# Altium footprint library common.PCBLIB: 88 footprints (part 5 of 6)
Each footprint in its own frame and in the unit in brackets; x right, y up, seen from the top. Pads: shape width x height; smd on the part's side, far side on the other; paste and mask are expansions set on the pad; w line width, h text height; cw(c..) or ccw(c..) is an arc to the next point about the centre after c.
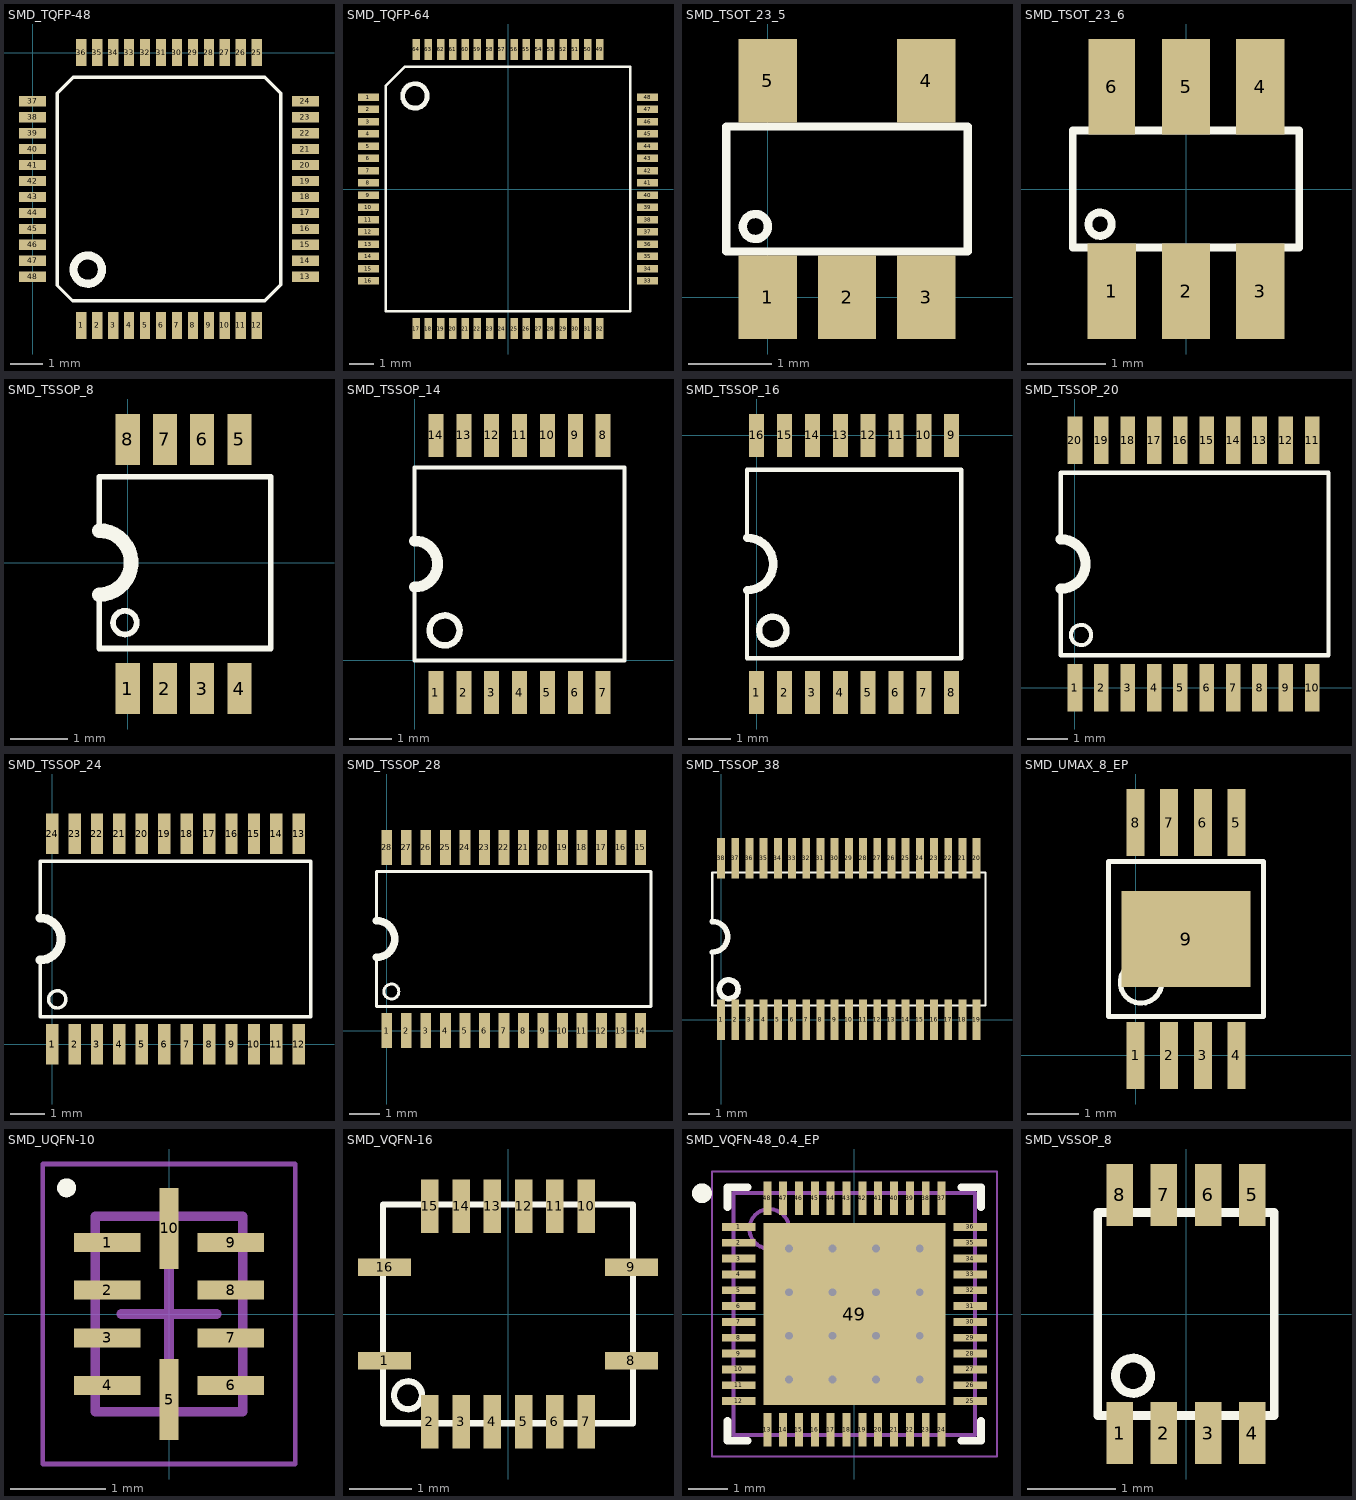
[diagram p4: the footprints below, top view; thin cyan lines are the x and y axes]

## SMD_TQFP-48 [mm] "SMD_TQFP-48"
height 1.6
pads (48):
  rect 0.32x0.85 smd: 1(1.525,-8.55) 2(2.025,-8.55) 3(2.525,-8.55) 4(3.025,-8.55) 5(3.525,-8.55) 6(4.025,-8.55) 7(4.525,-8.55) 8(5.025,-8.55) 9(5.525,-8.55) 10(6.025,-8.55) 11(6.525,-8.55) 12(7.025,-8.55) 25(7.025,0) 26(6.525,0) 27(6.025,0) 28(5.525,0) 29(5.025,0) 30(4.525,0) 31(4.025,0) 32(3.525,0) 33(3.025,0) 34(2.525,0) 35(2.025,0) 36(1.525,0)
  rect 0.85x0.32 smd: 13(8.55,-7.025) 14(8.55,-6.525) 15(8.55,-6.025) 16(8.55,-5.525) 17(8.55,-5.025) 18(8.55,-4.525) 19(8.55,-4.025) 20(8.55,-3.525) 21(8.55,-3.025) 22(8.55,-2.525) 23(8.55,-2.025) 24(8.55,-1.525) 37(0,-1.525) 38(0,-2.025) 39(0,-2.525) 40(0,-3.025) 41(0,-3.525) 42(0,-4.025) 43(0,-4.525) 44(0,-5.025) 45(0,-5.525) 46(0,-6.025) 47(0,-6.525) 48(0,-7.025)
Top Overlay:
  circle w0.254: c1.73,-6.8 r0.445
  lines w0.1: 0.775,-7.3 0.775,-1.275 1.275,-0.775 7.275,-0.775 7.775,-1.275 7.775,-7.275 7.275,-7.775 1.25,-7.775 0.775,-7.3

## SMD_TQFP-64 [mm]
pads (64):
  rect 0.85x0.3 smd: 1(-5.7,3.75) 2(-5.7,3.25) 3(-5.7,2.75) 4(-5.7,2.25) 5(-5.7,1.75) 6(-5.7,1.25) 7(-5.7,0.75) 8(-5.7,0.25) 9(-5.7,-0.25) 10(-5.7,-0.75) 11(-5.7,-1.25) 12(-5.7,-1.75) 13(-5.7,-2.25) 14(-5.7,-2.75) 15(-5.7,-3.25) 16(-5.7,-3.75) 33(5.7,-3.75) 34(5.7,-3.25) 35(5.7,-2.75) 36(5.7,-2.25) 37(5.7,-1.75) 38(5.7,-1.25) 39(5.7,-0.75) 40(5.7,-0.25) 41(5.7,0.25) 42(5.7,0.75) 43(5.7,1.25) 44(5.7,1.75) 45(5.7,2.25) 46(5.7,2.75) 47(5.7,3.25) 48(5.7,3.75)
  rect 0.3x0.85 smd: 17(-3.75,-5.7) 18(-3.25,-5.7) 19(-2.75,-5.7) 20(-2.25,-5.7) 21(-1.75,-5.7) 22(-1.25,-5.7) 23(-0.75,-5.7) 24(-0.25,-5.7) 25(0.25,-5.7) 26(0.75,-5.7) 27(1.25,-5.7) 28(1.75,-5.7) 29(2.25,-5.7) 30(2.75,-5.7) 31(3.25,-5.7) 32(3.75,-5.7) 49(3.75,5.7) 50(3.25,5.7) 51(2.75,5.7) 52(2.25,5.7) 53(1.75,5.7) 54(1.25,5.7) 55(0.75,5.7) 56(0.25,5.7) 57(-0.25,5.7) 58(-0.75,5.7) 59(-1.25,5.7) 60(-1.75,5.7) 61(-2.25,5.7) 62(-2.75,5.7) 63(-3.25,5.7) 64(-3.75,5.7)
Top Overlay:
  circle w0.2: c-3.8,3.8 r0.5
  lines w0.1: -5,-5 -5,4.2 -4.2,5 5,5 5,-5 -5,-5

## SMD_TSOT_23_5 [mm]
pads (5):
  rect 0.7x1 smd: 1(0,0) 2(0.95,0) 3(1.9,0) 4(1.9,2.6) 5(0,2.6)
Top Overlay:
  circle w0.1: c-0.15,0.85 r0.15
  lines w0.1: -0.5,0.55 2.4,0.55 2.4,2.05 -0.5,2.05 -0.5,0.55

## SMD_TSOT_23_6 [mm]
height 1
pads (6):
  rect 0.62x1.22 smd: 1(-0.95,-1.31) 2(0,-1.31) 3(0.95,-1.31) 4(0.95,1.31) 5(0,1.31)
  rect 0.6x1.22 smd: 6(-0.95,1.31)
Top Overlay:
  circle w0.1: c-1.1,-0.45 r0.15
  lines w0.1: -1.45,-0.75 1.45,-0.75 1.45,0.75 -1.45,0.75 -1.45,-0.75

## SMD_TSSOP_8 [mm] "SMD_TSSOP_8"
height 1.1
pads (8):
  rect 0.42x0.89 smd: 1(0,-2.2) 2(0.65,-2.2) 3(1.3,-2.2) 4(1.95,-2.2) 5(1.95,2.15) 6(1.3,2.15) 7(0.65,2.15) 8(0,2.15)
Top Overlay:
  lines w0.1: -0.5,-0.6 -0.5,-1.5 2.5,-1.5 2.5,1.5 -0.5,1.5 -0.5,0.6 ; 0.152,-1.01 ccw(c-0.05,-1.05) 0.156,-1.05
  lines w0.254: -0.5,-0.559 ccw(c-0.5,0) -0.5,0.559

## SMD_TSSOP_14 [mm] "SMD_TSSOP_14"
pads (14):
  rect 0.35x1 smd: 1(0.5,-0.75) 2(1.15,-0.75) 3(1.8,-0.75) 4(2.45,-0.75) 5(3.1,-0.75) 6(3.75,-0.75) 7(4.4,-0.75) 8(4.4,5.25) 9(3.75,5.25) 10(3.1,5.25) 11(2.45,5.25) 12(1.8,5.25) 13(1.15,5.25) 14(0.5,5.25)
Top Overlay:
  circle w0.15: c0.7,0.7 r0.35
  lines w0.1: 0,1.7 0,0 4.9,0 4.9,4.5 0,4.5 0,2.8
  lines w0.254: 0,1.712 ccw(c0,2.25) 0,2.789

## SMD_TSSOP_16 [mm] "SMD_TSSOP_16"
height 1.2
pads (16):
  rect 0.35x1 smd: 1(0,-6) 2(0.65,-6) 3(1.3,-6) 4(1.95,-6) 5(2.6,-6) 6(3.25,-6) 7(3.9,-6) 8(4.55,-6) 9(4.55,0) 10(3.9,0) 11(3.25,0) 12(2.6,0) 13(1.95,0) 14(1.3,0) 15(0.65,0) 16(0,0)
Top Overlay:
  circle w0.15: c0.375,-4.55 r0.32
  lines w0.1: -0.225,-3.6 -0.225,-5.2 4.775,-5.2 4.775,-0.8 -0.225,-0.8 -0.225,-2.4
  lines w0.2: -0.225,-3.61 ccw(c-0.225,-3) -0.225,-2.39

## SMD_TSSOP_20 [mm] "SMD_TSSOP_20"
height 1.2
pads (20):
  rect 0.36x1.17 smd: 1(0,0) 2(0.65,0) 3(1.3,0) 4(1.95,0) 5(2.6,0) 6(3.25,0) 7(3.9,0) 8(4.55,0) 9(5.2,0) 10(5.85,0) 11(5.85,6.1) 12(5.2,6.1) 13(4.55,6.1) 14(3.9,6.1) 15(3.25,6.1) 16(2.6,6.1) 17(1.95,6.1) 18(1.3,6.1) 19(0.65,6.1) 20(0,6.1)
Top Overlay:
  circle w0.1: c0.15,1.3 r0.25
  lines w0.1: -0.35,2.44 -0.35,0.8 6.25,0.8 6.25,5.3 -0.35,5.3 -0.35,3.66
  lines w0.254: -0.35,2.44 ccw(c-0.35,3.05) -0.35,3.66

## SMD_TSSOP_24 [mm] "SMD_TSSOP_24"
pads (24):
  rect 0.36x1.17 smd: 1(0,0) 2(0.65,0) 3(1.3,0) 4(1.95,0) 5(2.6,0) 6(3.25,0) 7(3.9,0) 8(4.55,0) 9(5.2,0) 10(5.85,0) 11(6.5,0) 12(7.15,0) 13(7.15,6.1) 14(6.5,6.1) 15(5.85,6.1) 16(5.2,6.1) 17(4.55,6.1) 18(3.9,6.1) 19(3.25,6.1) 20(2.6,6.1) 21(1.95,6.1) 22(1.3,6.1) 23(0.65,6.1) 24(0,6.1)
Top Overlay:
  circle w0.1: c0.15,1.3 r0.25
  lines w0.1: -0.35,2.44 -0.35,0.8 7.5,0.8 7.5,5.3 -0.35,5.3 -0.35,3.66
  lines w0.254: -0.35,2.44 ccw(c-0.35,3.05) -0.35,3.66

## SMD_TSSOP_28 [mm]
pads (28):
  rect 0.36x1.17 smd: 1(0,0) 2(0.65,0) 3(1.3,0) 4(1.95,0) 5(2.6,0) 6(3.25,0) 7(3.9,0) 8(4.55,0) 9(5.2,0) 10(5.85,0) 11(6.5,0) 12(7.15,0) 13(7.8,0) 14(8.45,0) 15(8.45,6.1) 16(7.8,6.1) 17(7.15,6.1) 18(6.5,6.1) 19(5.85,6.1) 20(5.2,6.1) 21(4.55,6.1) 22(3.9,6.1) 23(3.25,6.1) 24(2.6,6.1) 25(1.95,6.1) 26(1.3,6.1) 27(0.65,6.1) 28(0,6.1)
Top Overlay:
  circle w0.1: c0.15,1.3 r0.25
  lines w0.1: -0.35,2.44 -0.35,0.8 8.8,0.8 8.8,5.3 -0.35,5.3 -0.35,3.66
  lines w0.254: -0.35,2.44 ccw(c-0.35,3.05) -0.35,3.66

## SMD_TSSOP_38 [mm] "SMD_TSSOP_38"
height 1.2
pads (38):
  rect 0.36x1.86 smd: 1(0,0) 2(0.65,0) 3(1.3,0) 4(1.95,0) 5(2.6,0) 6(3.25,0) 7(3.9,0) 8(4.55,0) 9(5.2,0) 10(5.85,0) 11(6.5,0) 12(7.15,0) 13(7.8,0) 14(8.45,0) 15(9.1,0) 16(9.75,0) 17(10.4,0) 18(11.05,0) 19(11.7,0) 20(11.7,7.4) 21(11.05,7.4) 22(10.4,7.4) 23(9.75,7.4) 24(9.1,7.4) 25(8.45,7.4) 26(7.8,7.4) 27(7.15,7.4) 28(6.5,7.4) 29(5.85,7.4) 30(5.2,7.4) 31(4.55,7.4) 32(3.9,7.4) 33(3.25,7.4) 34(2.6,7.4) 35(1.95,7.4) 36(1.3,7.4) 37(0.65,7.4) 38(0,7.4)
Top Overlay:
  circle w0.254: c0.35,1.4 r0.43
  lines w0.1: -0.4,3.1 -0.4,0.65 12.1,0.65 12.1,6.75 -0.4,6.75 -0.4,4.5
  lines w0.254: -0.4,3.1 ccw(c-0.4,3.8) -0.4,4.5

## SMD_UMAX_8_EP [mm] "SMD_UMAX_8_EP"
pads (9):
  rect 0.35x1.3 smd: 1(0,0) 2(0.65,0) 3(1.3,0) 4(1.95,0) 5(1.95,4.5) 6(1.3,4.5) 7(0.65,4.5) 8(0,4.5)
  rect 2.5x1.85 smd paste+0 mask+0.05: 9(0.975,2.25)
Top Overlay:
  circle w0.1: c0.105,1.41 r0.4
  lines w0.1: -0.525,0.75 2.475,0.75 2.475,3.75 -0.525,3.75 -0.525,0.75

## SMD_UQFN-10 [mm]
height 0.6
pads (10):
  rect 0.7x0.2 smd: 1(-0.65,0.75) 2(-0.65,0.25) 3(-0.65,-0.25) 4(-0.65,-0.75) 6(0.65,-0.75) 7(0.65,-0.25) 8(0.65,0.25) 9(0.65,0.75)
  rect 0.2x0.85 smd: 5(0,-0.9) 10(0,0.9)
Top Overlay:
  circle w0.1: c-1.075,1.325 r0.05
Mechanical 13:
  lines w0.1: -0.775,-1.025 -0.775,1.025 0.775,1.025 0.775,-1.025 -0.775,-1.025
Mechanical 15:
  lines w0.05: -1.325,-1.575 -1.325,1.575 1.325,1.575 1.325,-1.575 -1.325,-1.575
  lines w0.1: -0.5,0 0.5,0 ; 0,-0.5 0,0.5
3D body: height 0.6, standoff 0.05, extent -0.775,-1.025 0.775,1.025

## SMD_VQFN-16 [mm] "SMD_VQFN-16"
height 1
pads (16):
  rect 0.85x0.28 smd: 1(-1.975,-0.75) 8(1.975,-0.75) 9(1.975,0.75) 16(-1.975,0.75)
  rect 0.28x0.85 smd: 2(-1.25,-1.725) 3(-0.75,-1.725) 4(-0.25,-1.725) 5(0.25,-1.725) 6(0.75,-1.725) 7(1.25,-1.725) 10(1.25,1.725) 11(0.75,1.725) 12(0.25,1.725) 13(-0.25,1.725) 14(-0.75,1.725) 15(-1.25,1.725)
Top Overlay:
  circle w0.1: c-1.6,-1.3 r0.224
  lines w0.1: -2,-1.75 -2,1.75 2,1.75 2,-1.75 -2,-1.75

## SMD_VQFN-48_0.4_EP [mm] "QFN, 48-Leads, Body 6.00x6.00mm, Pitch 0.40mm, Thermal Pad 4.60x4.60mm, IPC Medium Density"
height 0.9
pads (49):
  rect 0.85x0.2 smd: 1(-2.925,2.2) 2(-2.925,1.8) 3(-2.925,1.4) 4(-2.925,1) 5(-2.925,0.6) 6(-2.925,0.2) 7(-2.925,-0.2) 8(-2.925,-0.6) 9(-2.925,-1) 10(-2.925,-1.4) 11(-2.925,-1.8) 12(-2.925,-2.2) 25(2.925,-2.2) 26(2.925,-1.8) 27(2.925,-1.4) 28(2.925,-1) 29(2.925,-0.6) 30(2.925,-0.2) 31(2.925,0.2) 32(2.925,0.6) 33(2.925,1) 34(2.925,1.4) 35(2.925,1.8) 36(2.925,2.2)
  rect 0.2x0.85 smd: 13(-2.2,-2.925) 14(-1.8,-2.925) 15(-1.4,-2.925) 16(-1,-2.925) 17(-0.6,-2.925) 18(-0.2,-2.925) 19(0.2,-2.925) 20(0.6,-2.925) 21(1,-2.925) 22(1.4,-2.925) 23(1.8,-2.925) 24(2.2,-2.925) 37(2.2,2.925) 38(1.8,2.925) 39(1.4,2.925) 40(1,2.925) 41(0.6,2.925) 42(0.2,2.925) 43(-0.2,2.925) 44(-0.6,2.925) 45(-1,2.925) 46(-1.4,2.925) 47(-1.8,2.925) 48(-2.2,2.925)
  rect 4.6x4.6 smd: 49(0,0)
via 1.65,-1.65 diameter 0.5 hole 0.2
via 0.55,-1.65 diameter 0.5 hole 0.2
via -0.55,-1.65 diameter 0.5 hole 0.2
via -1.65,-1.65 diameter 0.5 hole 0.2
via 1.65,-0.55 diameter 0.5 hole 0.2
via 0.55,-0.55 diameter 0.5 hole 0.2
via -0.55,-0.55 diameter 0.5 hole 0.2
via -1.65,-0.55 diameter 0.5 hole 0.2
via 1.65,0.55 diameter 0.5 hole 0.2
via 0.55,0.55 diameter 0.5 hole 0.2
via -0.55,0.55 diameter 0.5 hole 0.2
via -1.65,0.55 diameter 0.5 hole 0.2
via 1.65,1.65 diameter 0.5 hole 0.2
via 0.55,1.65 diameter 0.5 hole 0.2
via -0.55,1.65 diameter 0.5 hole 0.2
via -1.65,1.65 diameter 0.5 hole 0.2
Top Overlay:
  circle w0.25: c-3.85,3.05 r0.125
  lines w0.2: -3.2,-2.7 -3.2,-3.2 -2.7,-3.2 ; -3.2,2.7 -3.2,3.2 -2.7,3.2 ; 2.7,-3.2 3.2,-3.2 3.2,-2.7 ; 2.7,3.2 3.2,3.2 3.2,2.7
Mechanical 13:
  circle w0.1: c-2.15,2.15 r0.5
  lines w0.1: -3.05,-3.05 3.05,-3.05 3.05,3.05 -3.05,3.05 -3.05,-3.05
Mechanical 15:
  lines w0.05: -3.6,-3.6 3.6,-3.6 3.6,3.6 -3.6,3.6 -3.6,-3.6
  lines w0.1: -0.5,0 0.5,0 ; 0,-0.5 0,0.5
3D body: height 0.9, standoff 0.02, extent -3.05,-3.05 3.05,3.05

## SMD_VSSOP_8 [mm] "SMD_VSSOP_8"
height 0.7
pads (8):
  rect 0.3x0.7 smd: 1(-0.75,-1.35) 2(-0.25,-1.35) 3(0.25,-1.35) 4(0.75,-1.35) 5(0.75,1.35) 6(0.25,1.35) 7(-0.25,1.35) 8(-0.75,1.35)
Top Overlay:
  circle w0.1: c-0.6,-0.7 r0.2
  lines w0.1: -1,-1.15 1,-1.15 1,1.15 -1,1.15 -1,-1.15